# EAGLE library part 14PIN_NAND (library user)
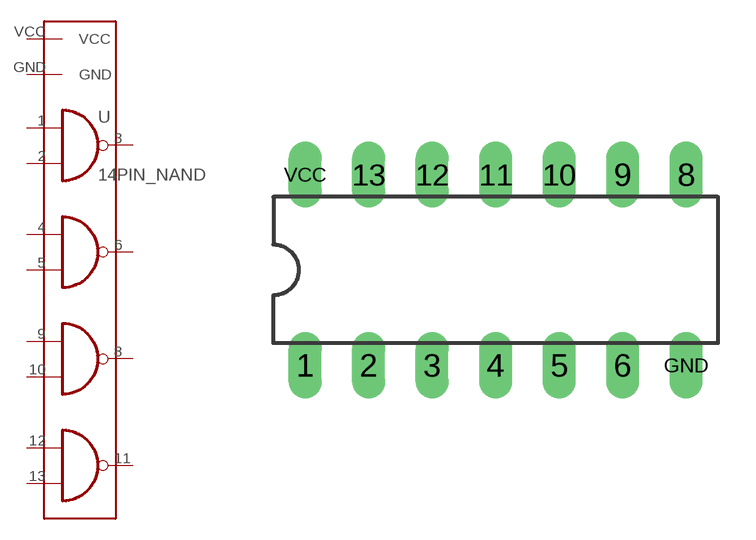
[diagram p4: symbol with the pads of 14PIN_NAND; footprint 14PIN_NAND]

Designator prefix -

## 14PIN_NAND  [14PIN_NAND]
1  1A  in
2  1B  in
3  1Y  out
4  2A  in
5  2B  in
6  2Y  out
8  3Y  out
9  3A  in
10  3B  in
11  4Y  out
12  4A  in
13  4B  in
GND  GND
VCC  VCC

## Footprint 14PIN_NAND (pad centres in mm)
Dual In Line Package
drill 0.813 long: 1 -7.62,-3.81; 2 -5.08,-3.81; 3 -2.54,-3.81; 4 0,-3.81; 5 2.54,-3.81; 6 5.08,-3.81; 8 7.62,3.81; 9 5.08,3.81; 10 2.54,3.81; 11 0,3.81; 12 -2.54,3.81; 13 -5.08,3.81; GND 7.62,-3.81; VCC -7.62,3.81